# Altium footprint library Mini_USB_B_Sink.PcbLib: 1 footprints
Each footprint in its own frame and in the unit in brackets; x right, y up, seen from the top. Pads: shape width x height; smd on the part's side, far side on the other; paste and mask are expansions set on the pad; w line width, h text height; cw(c..) or ccw(c..) is an arc to the next point about the centre after c.
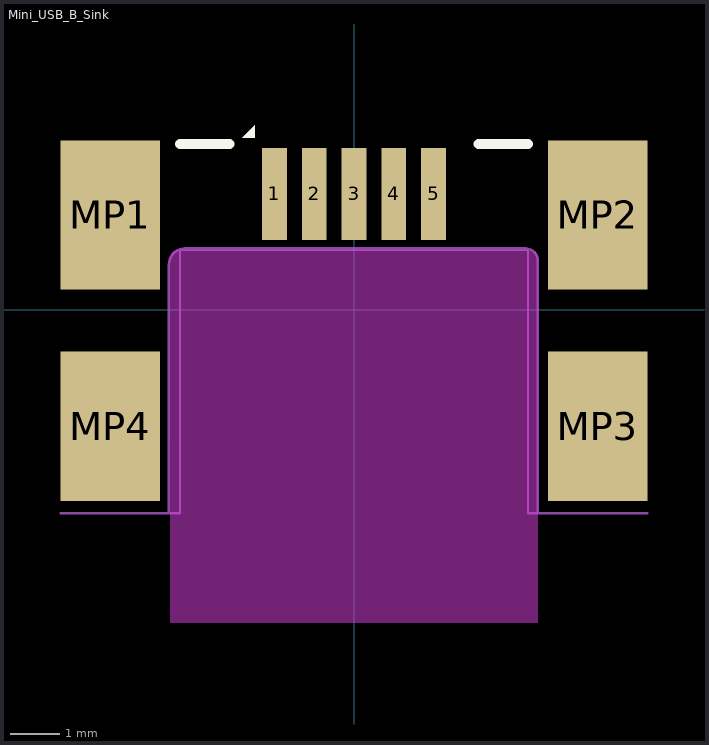
[diagram p0: the footprint, top view; thin cyan lines are the x and y axes]

## Mini_USB_B_Sink [mm]
height 3.9
pads (9):
  rect 0.5x1.85 smd: 1(-1.6,2.338) 2(-0.8,2.338) 3(0,2.338) 4(0.8,2.338) 5(1.6,2.338)
  rect 2x3 smd: MP1(-4.9,1.913) MP2(4.9,1.913) MP3(4.9,-2.337) MP4(-4.9,-2.337)
Top Overlay:
  region: -2,3.713 -2,3.463 -2.25,3.463
  lines w0.2: -3.5,3.338 -2.5,3.338 ; 2.5,3.338 3.5,3.338
Keep-Out Layer:
  board cut-out: -3.704,1.013 -3.688,1.091 -3.644,1.157 -3.578,1.201 -3.5,1.216 -3.5,1.213 3.5,1.216 3.578,1.201 3.644,1.157 3.688,1.091 3.704,1.013 3.7,1.013 3.7,-6.287 -3.7,-6.287
Keep-Out Layer:
  region: -3.704,1.013 -3.688,1.091 -3.644,1.157 -3.578,1.201 -3.5,1.216 -3.5,1.213 3.5,1.216 3.578,1.201 3.644,1.157 3.688,1.091 3.704,1.013 3.7,1.013 3.7,-6.287 -3.7,-6.287
Mechanical 1:
  lines w0.05: -5.9,-4.088 -3.725,-4.088 -3.725,0.913 cw(c-3.4,0.913) -3.4,1.238 3.45,1.238 cw(c3.45,0.988) 3.7,0.988 3.7,-4.088 5.9,-4.088
Mechanical 15:
  lines w0.05: -5.9,-4.088 -3.5,-4.088 -3.5,1.213 0,1.213 3.5,1.213 3.5,-4.088 5.9,-4.088
3D body: height 0, standoff 0, extent -5.901,-4.088 5.901,1.213
3D body: height 2.41, standoff -1.68, extent -4.956,-6.163 4.944,2.837